# EAGLE library part THAT2180 (library ic-that)
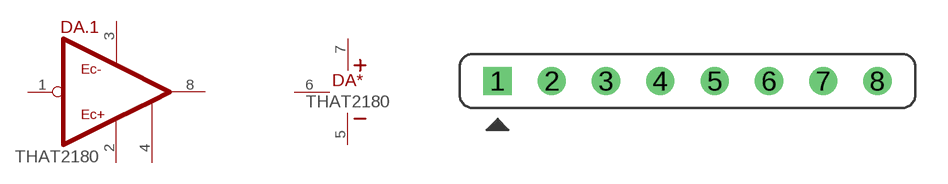
[diagram p0: symbol with the pads of SIL8; footprint SIL8]

Designator prefix DA; gates .1=THAT2180 *=SUPPLY+GND

## THAT2180  [SIL8]
1  .1:IN-  in
2  .1:EC+  out
3  .1:EC-  out
4  .1:SYM  out
5  *:V-  pwr
6  *:GND  pwr
7  *:V+  pwr
8  .1:OUT  out

## Footprint SIL8 (pad centres in mm)
drill 0.813 square: 1 -8.89,0
drill 0.813: 2 -6.35,0; 3 -3.81,0; 4 -1.27,0; 5 1.27,0; 6 3.81,0; 7 6.35,0; 8 8.89,0